# EAGLE library part CM108 (library arno)
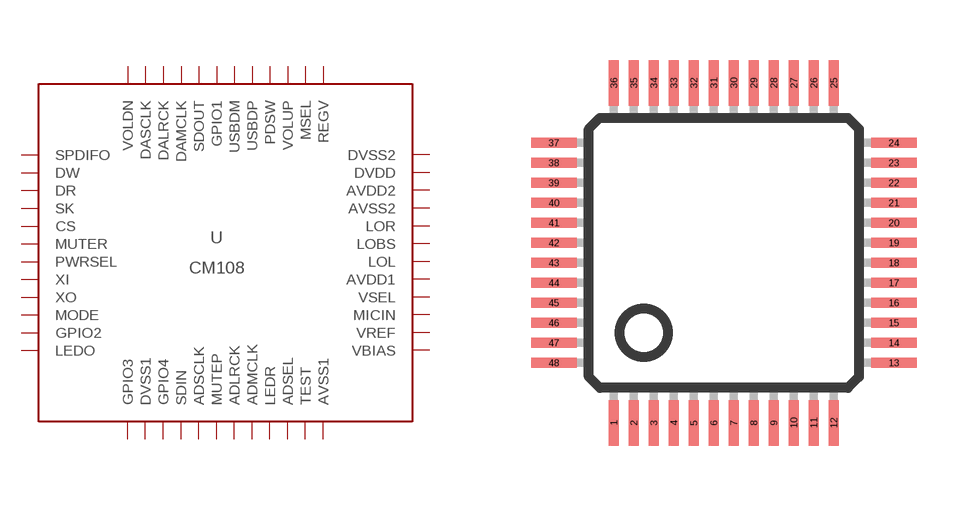
[diagram p16: symbol with the pads of LQFP-48; footprint LQFP-48]

Designator prefix U

## CM108  [LQFP-48]
1  SPDIFO
2  DW
3  DR
4  SK
5  CS
6  MUTER
7  PWRSEL
8  XI
9  XO
10  MODE
11  GPIO2
12  LEDO
13  GPIO3
14  DVSS1
15  GPIO4
16  SDIN
17  ADSCLK
18  MUTEP
19  ADLRCK
20  ADMCLK
21  LEDR
22  ADSEL
23  TEST
24  AVSS1
25  VBIAS
26  VREF
27  MICIN
28  VSEL
29  AVDD1
30  LOL
31  LOBS
32  LOR
33  AVSS2
34  AVDD2
35  DVDD
36  DVSS2
37  REGV
38  MSEL
39  VOLUP
40  PDSW
41  USBDP
42  USBDM
43  GPIO1
44  SDOUT
45  DAMCLK
46  DALRCK
47  DASCLK
48  VOLDN

## Footprint LQFP-48 (pad centres in mm)
smd 0.254 x 1.143: 1 -2.75,-4.25; 2 -2.25,-4.25; 3 -1.75,-4.25; 4 -1.25,-4.25; 5 -0.75,-4.25; 6 -0.25,-4.25; 7 0.25,-4.25; 8 0.75,-4.25; 9 1.25,-4.25; 10 1.75,-4.25; 11 2.25,-4.25; 12 2.75,-4.25; 25 2.75,4.25; 26 2.25,4.25; 27 1.75,4.25; 28 1.25,4.25; 29 0.75,4.25; 30 0.25,4.25; 31 -0.25,4.25; 32 -0.75,4.25; 33 -1.25,4.25; 34 -1.75,4.25; 35 -2.25,4.25; 36 -2.75,4.25
smd 1.143 x 0.254: 13 4.25,-2.75; 14 4.25,-2.25; 15 4.25,-1.75; 16 4.25,-1.25; 17 4.25,-0.75; 18 4.25,-0.25; 19 4.25,0.25; 20 4.25,0.75; 21 4.25,1.25; 22 4.25,1.75; 23 4.25,2.25; 24 4.25,2.75; 37 -4.25,2.75; 38 -4.25,2.25; 39 -4.25,1.75; 40 -4.25,1.25; 41 -4.25,0.75; 42 -4.25,0.25; 43 -4.25,-0.25; 44 -4.25,-0.75; 45 -4.25,-1.25; 46 -4.25,-1.75; 47 -4.25,-2.25; 48 -4.25,-2.75